# Altium schematic symbol library TS5A9411.SchLib: 1 symbol
Pins are listed as number, name and electrical type; pins without a type are passive.

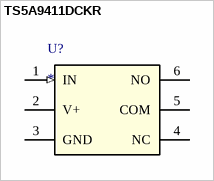
[diagram p0: symbol TS5A9411DCKR]

## TS5A9411DCKR
designator U?
10-Ω 1:2 SPDT Analog Switch Single-Channel 2:1 Multiplexer and Demultiplexer; PartNumber: TS5A9411DCKR; Manufacturer: Texas Instruments; RefDes: RefDes; TYPE: TYPE; Value: Value
footprint DCK0006A_N
pins: 1 IN (in), 2 V+ (power), 3 GND (power), 4 NC, 5 COM, 6 NO